# EAGLE library part SN74HC157 (library QADT)
2-to-1 MUX TI SN74HC157
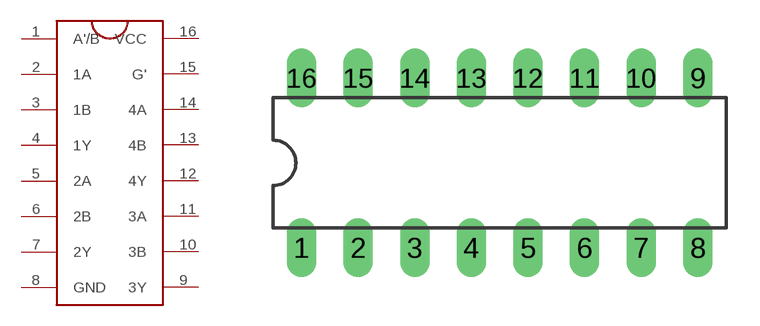
[diagram p11: symbol with the pads of SN74HC157; footprint SN74HC157]

Designator prefix -

## SN74HC157  [SN74HC157]
1  A'/B
2  1A
3  1B
4  1Y
5  2A
6  2B
7  2Y
8  GND
9  3Y
10  3B
11  3A
12  4Y
13  4B
14  4A
15  G'
16  VCC

## Footprint SN74HC157 (pad centres in mm)
Dual In Line Package
drill 0.813 long: 1 -8.89,-3.81; 2 -6.35,-3.81; 3 -3.81,-3.81; 4 -1.27,-3.81; 5 1.27,-3.81; 6 3.81,-3.81; 7 6.35,-3.81; 8 8.89,-3.81; 9 8.89,3.81; 10 6.35,3.81; 11 3.81,3.81; 12 1.27,3.81; 13 -1.27,3.81; 14 -3.81,3.81; 15 -6.35,3.81; 16 -8.89,3.81